# Altium footprint library PCB - CONNECTOR - JST - JST BM04B-SURS-TF.PCBLIB: 1 footprints
Each footprint in its own frame and in the unit in brackets; x right, y up, seen from the top. Pads: shape width x height; smd on the part's side, far side on the other; paste and mask are expansions set on the pad; w line width, h text height; cw(c..) or ccw(c..) is an arc to the next point about the centre after c.
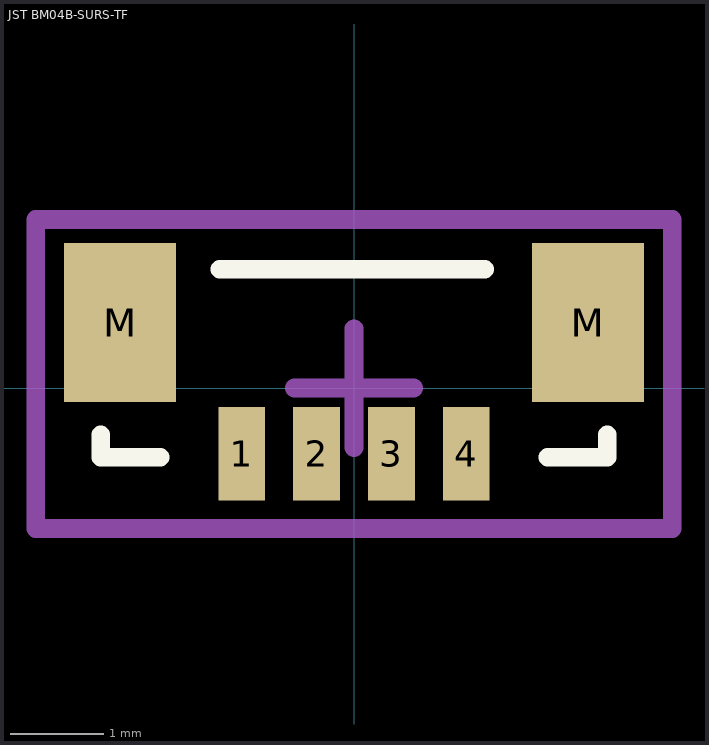
[diagram p0: the footprint, top view; thin cyan lines are the x and y axes]

## JST BM04B-SURS-TF [mm] "1.0mm pitch/Disconnectable Crimp style connector"
height 3.95
pads (6):
  rect 0.5x1 smd: 1(-1.2,-0.7) 2(-0.4,-0.7) 3(0.4,-0.7) 4(1.2,-0.7)
  rect 1.2x1.7 smd: M(-2.5,0.7) M(2.5,0.7)
Top Overlay:
  lines w0.2: -2.705,-0.5 -2.705,-0.741 -2.07,-0.741 ; -1.435,1.27 1.397,1.27 ; 2.07,-0.741 2.705,-0.741 2.705,-0.5
Mechanical 15:
  lines w0.2: -0.635,0 0.635,0 ; 0,-0.635 0,0.635 ; -3.4,-1.5 -3.4,1.8 3.4,1.8 3.4,-1.5 -3.4,-1.5
3D body "JST BM04B-SURS-TF.STEP": height 2.75, standoff 0, extent -2.7,-1.016 2.7,1.234